# Altium footprint library CON10_100mil.PcbLib: 1 footprints
Each footprint in its own frame and in the unit in brackets; x right, y up, seen from the top. Pads: shape width x height; smd on the part's side, far side on the other; paste and mask are expansions set on the pad; w line width, h text height; cw(c..) or ccw(c..) is an arc to the next point about the centre after c.
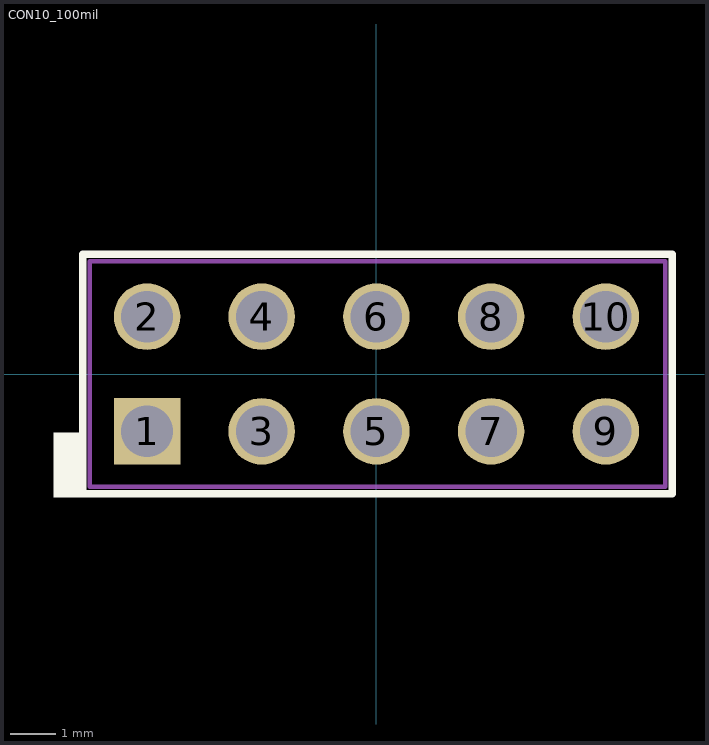
[diagram p0: the footprint, top view; thin cyan lines are the x and y axes]

## CON10_100mil [mil]
pads (10):
  rect 58x58 hole 45 mask+3.15: 1(-200,-50)
  round 58 hole 45 mask+3.15: 2(-200,50) 3(-100,-50) 5(0,-50) 6(0,50) 7(100,-50) 8(100,50) 9(200,-50) 10(200,50)
  round 58 hole 45: 4(-100,50)
Top Overlay:
  region: -255.91,-107.68 -255.91,-51.18 -281.5,-51.18 -281.5,-107.68
  lines w6.69: -255.91,-104.33 257.87,-104.33 257.87,104.33 -255.91,104.33 -255.91,25.59 -255.91,-104.33
Mechanical 5:
  lines w3.94: -250,-98.43 -250,98.43 251.97,98.43 251.97,-98.43 -250,-98.43
  text ".Designator" at -251.97,122.05 h39.37
3D body "879141016.stp": height 322.24, standoff -107.68, extent -250,-98.03 250,98.04